# Altium footprint library st7789.PcbLib: 1 footprints
Each footprint in its own frame and in the unit in brackets; x right, y up, seen from the top. Pads: shape width x height; smd on the part's side, far side on the other; paste and mask are expansions set on the pad; w line width, h text height; cw(c..) or ccw(c..) is an arc to the next point about the centre after c.
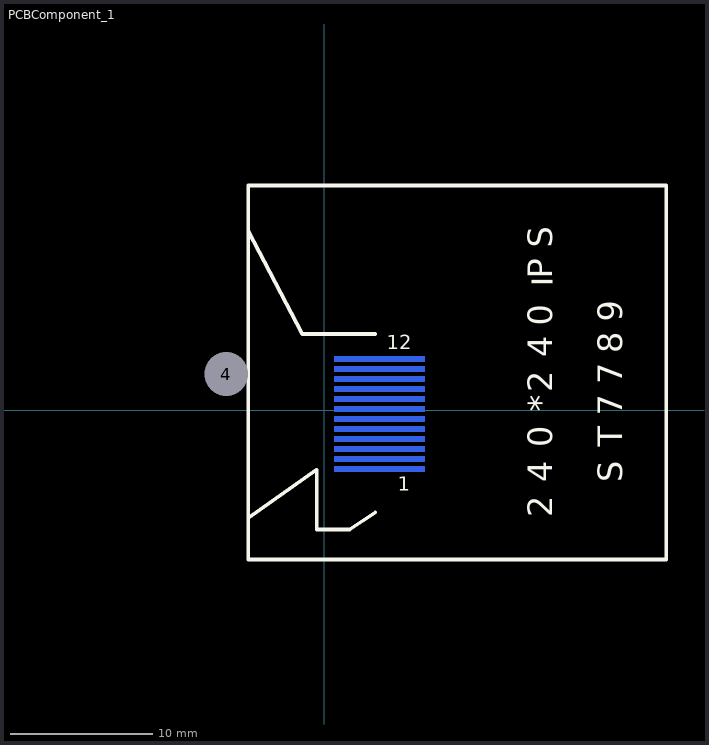
[diagram p0: the footprint, top view; thin cyan lines are the x and y axes]

## PCBComponent_1 [mm]
pads (13):
  rect 6.353x0.4 smd far side paste+0 mask+0.102: 1(3.884,-4.106) 2(3.884,-3.405) 3(3.884,-2.707) 4(3.884,-2.006) 5(3.884,-1.306) 6(3.884,-0.606) 7(3.884,0.093) 8(3.884,0.794) 9(3.884,1.495) 10(3.884,2.195) 11(3.884,2.894) 12(3.884,3.594)
  rect 1.524x1.524 hole 3.048 square: 4(-6.858,2.54)
Top Overlay:
  lines w0.254: -5.319,-7.555 -0.519,-4.156 -0.519,-8.355 1.78,-8.355 3.581,-7.156 ; -5.319,12.544 -1.52,5.343 3.581,5.343 ; -5.319,-10.456 -5.319,15.744 23.979,15.744 23.979,-10.456 -5.319,-10.456
  text "7" at 21.463,1.812 h2.92
  text "S" at 16.53,11.401 h2.92
  text "9" at 21.463,6.197 h2.92
  text "I" at 16.53,8.66 h2.92
  text "0" at 16.53,5.919 h2.92
  text "P" at 16.53,9.208 h2.92
  text "8" at 21.463,4.004 h2.92
  text "4" at 16.53,3.726 h2.92
  text "2" at 16.53,-7.511 h2.92
  text "*" at 16.53,-0.111 h2.92
  text "0" at 16.53,-2.577 h2.92
  text "4" at 16.53,-5.044 h2.92
  text "T" at 21.463,-2.574 h2.92
  text "S" at 21.463,-5.04 h2.92
  text "2" at 16.53,1.26 h2.92
  text "7" at 21.463,-0.381 h2.92
  text "12" at 4.394,4.267 h1
  text "1" at 5.156,-5.639 h1
3D body "1.3 TFT IPS - Flush Reverse Mount.stp": height 1.43, standoff -2.02, extent -7.521,-10.579 23.939,15.659